# Altium footprint library PFC_Interleaved_V8.1.PcbLib: 67 footprints (part 1 of 5)
Each footprint in its own frame and in the unit in brackets; x right, y up, seen from the top. Pads: shape width x height; smd on the part's side, far side on the other; paste and mask are expansions set on the pad; w line width, h text height; cw(c..) or ccw(c..) is an arc to the next point about the centre after c.
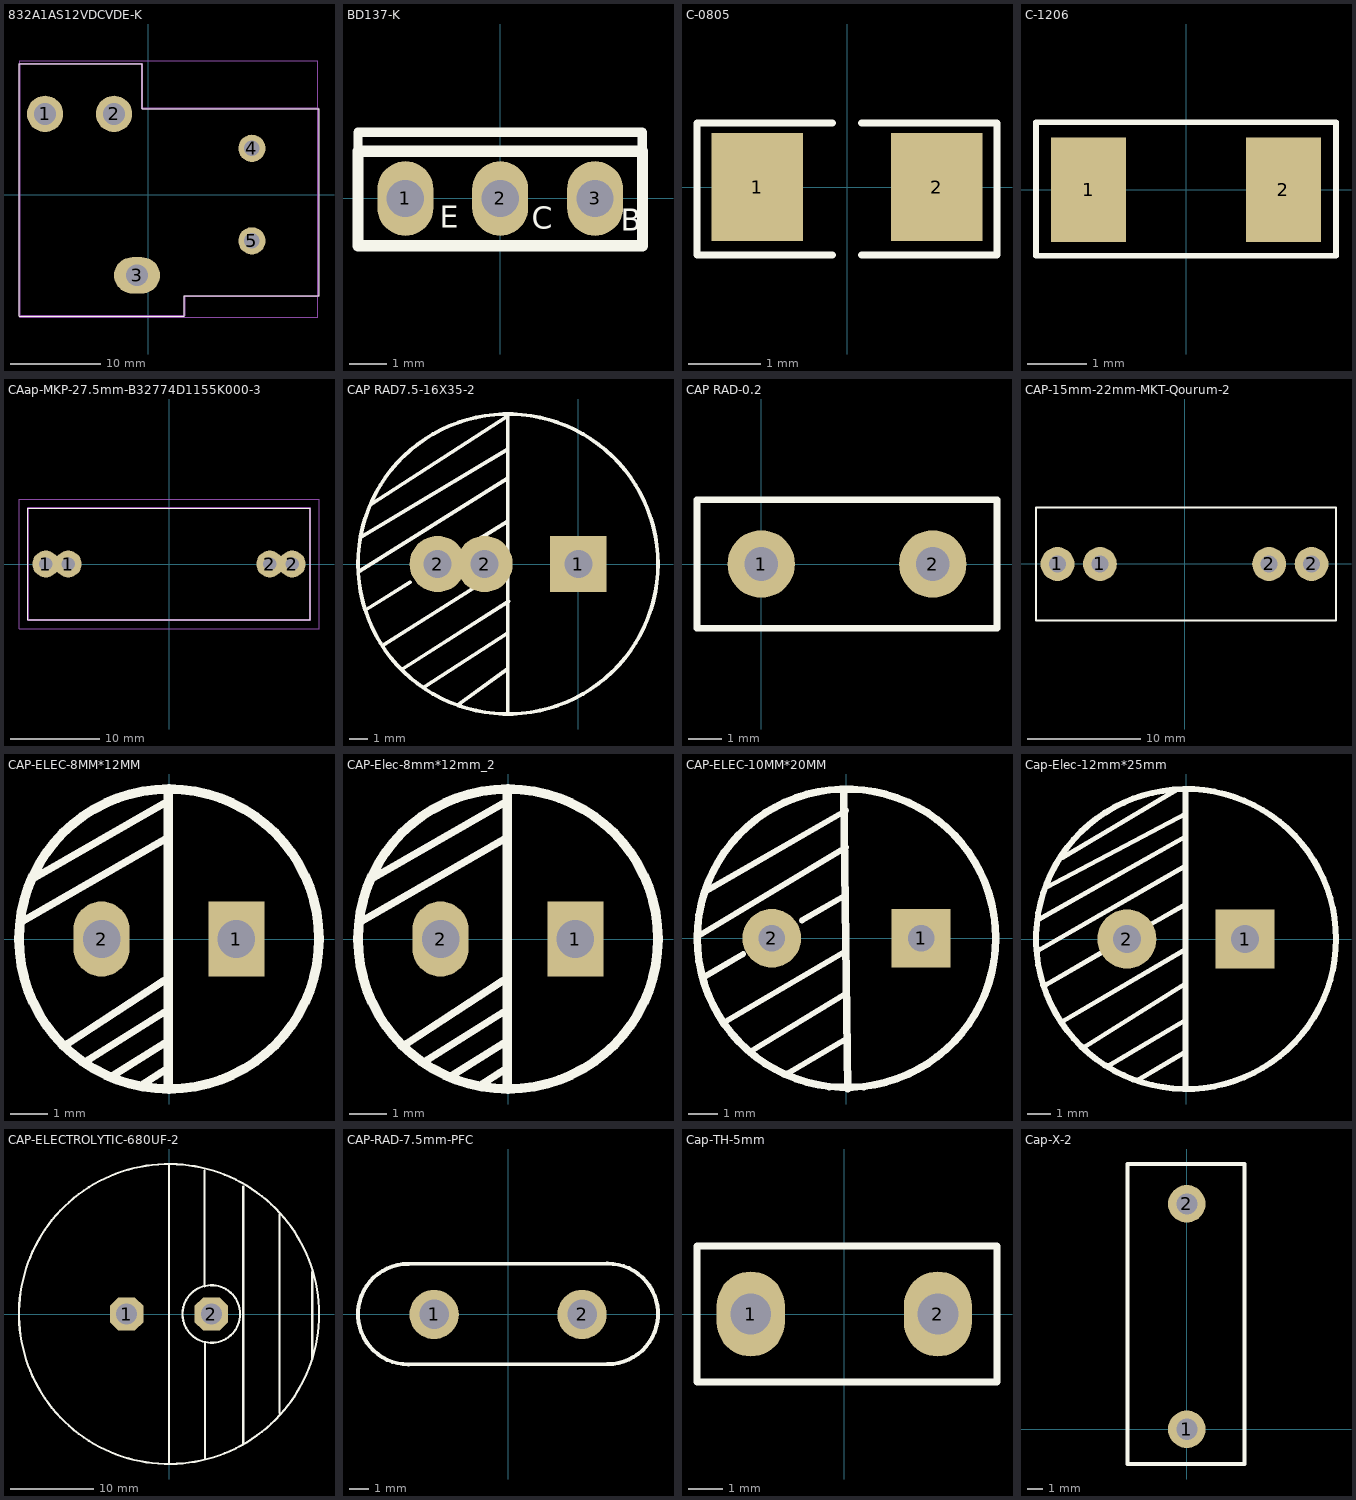
[diagram p0: the footprints below, top view; thin cyan lines are the x and y axes]

## 832A1AS12VDCVDE-K [mm]
pads (5):
  round 4 hole 2.4: 1(-11.4,8.9) 2(-3.8,8.9)
  oval 5.08x4 hole 2.4: 3(-1.26,-8.9)
  round 3 hole 1.7: 4(11.4,5.1) 5(11.4,-5.1)
Top Overlay:
  lines w0.1: -14.275,-13.411 -14.275,14.427 -0.686,14.427 -0.686,9.474 18.796,9.474 18.796,-11.176 3.962,-11.176 3.962,-13.411 -14.275,-13.411
Mechanical 13:
  lines w0.2: -14.224,-13.36 -14.224,14.427 -0.711,14.427 -0.711,9.5 18.72,9.5 18.72,-11.201 3.962,-11.201 3.962,-13.36 -14.224,-13.36
Mechanical 15:
  lines w0.1: -14.173,-13.513 -14.173,14.75 18.669,14.75 18.669,-13.513 -14.173,-13.513
3D body "2103595_t9as1d12-24.stp": height 1.71, standoff -22.04, extent -13.945,-13.208 18.567,14.224

## BD137-K [mm]
pads (3):
  oval 1.5x2 hole 1: 1(-2.54,0) 2(0,0) 3(2.54,0)
Top Overlay:
  lines w0.254: -3.81,1.27 -3.81,1.778 3.81,1.778 3.81,1.27 3.69,1.27
  lines w0.305: -3.81,-1.27 -3.81,1.27 3.81,1.27 3.81,-1.27 -3.81,-1.27
  text "B" at 3.226,-1.067 h1
  text "C" at 0.838,-1.016 h1
  text "E" at -1.626,-0.991 h1
3D body "User Library-TO-126V.STEP": height 15.75, standoff -7.75, extent -4.002,-1.098 3.798,1.702

## C-0805 [mm]
pads (2):
  rect 1.27x1.5 smd: 1(-1.245,0) 2(1.245,0)
Top Overlay:
  lines w0.1: -0.203,-0.94 -2.082,-0.94 -2.082,0.889 -0.203,0.889 ; 0.203,-0.94 2.082,-0.94 2.082,0.889 0.203,0.889
3D body "cap 0805.STEP": height 0.65, standoff 0, extent -1.016,-0.635 1.016,0.635

## C-1206 [mil]
pads (2):
  rect 50x70 smd: 1(-65,0) 2(65,0)
Top Overlay:
  lines w3.94: -100,-44 100,-44 100,45 -100,45 -100,-44
3D body "1206_Capacitor.step": height 39.45, standoff 0, extent -63.09,-31.49 62.89,31.5

## CAap-MKP-27.5mm-B32774D1155K000-3 [mm]
pads (4):
  round 3 hole 1.5: 1(-13.75,0) 1(-11.25,0) 2(11.25,0) 2(13.75,0)
Top Overlay:
  lines w0.1: -15.75,-6.25 -15.75,6.25 15.75,6.25 15.75,-6.25 -15.75,-6.25
Mechanical 13:
  lines w0.2: -15.75,-6.25 -15.75,6.25 15.75,6.25 15.75,-6.25 -15.75,-6.25
Mechanical 15:
  lines w0.1: -16.75,-7.25 -16.75,7.25 16.75,7.25 16.75,-7.25 -16.75,-7.25
3D body "r463r410050m1k.stp": height 19.8, standoff -5.3, extent -16.188,-5.562 16.112,5.639

## CAP RAD7.5-16X35-2 [mm]
pads (3):
  rect 3x3 hole 1.5: 1(0,0)
  round 3 hole 1.5: 2(-7.5,0) 2(-4.997,0)
Top Overlay:
  circle w0.2: c-3.75,0 r8
  lines w0.2: -11.684,-0.381 -3.759,4.572 ; -11.557,1.448 -3.759,6.121 ; -11.348,-2.457 -8.976,-0.975 ; -11.074,3.175 -3.759,7.899 -3.759,-7.976 ; -10.417,-4.339 -3.759,-0.127 ; -9.38,-5.601 -3.708,-1.981 ; -8.223,-6.563 -3.759,-3.683 ; -6.426,-7.518 -3.759,-5.588 ; -6.079,0.836 -3.759,2.286
3D body "User Library-CE_R300_D650_H1000.step": height 25.4, standoff -3.5, extent -11.964,-8.255 4.521,8.223

## CAP RAD-0.2 [mm]
pads (2):
  round 2 hole 1: 1(0,0) 2(5.08,0)
Top Overlay:
  lines w0.2: -1.905,-1.905 -1.905,1.905 6.985,1.905 6.985,-1.905 -1.905,-1.905
3D body: height 3, standoff 0, extent 4.83,-0.25 5.33,0.25
3D body: height 3, standoff 0, extent -0.25,-0.25 0.25,0.25
3D body: height 7, standoff 1, extent -0.536,-0.5 5.461,0.5

## CAP-15mm-22mm-MKT-Qourum-2 [mm]
pads (4):
  round 3 hole 1.5 mask+0: 1(-11.26,0) 1(-7.5,0) 2(7.5,0) 2(11.26,0)
Top Overlay:
  lines w0.152: 5.631,-5 13.429,-5 13.429,5 5.631,5 ; 6.298,-5 -13.165,-5 -13.165,5 6.298,5
3D body "User Library-Film Capacitor 26,5x10x18,5mm.step": height 18.51, standoff -2.49, extent -13.19,-5.076 13.31,4.924

## CAP-ELEC-8MM*12MM [mm]
pads (2):
  rect 1.5x2 hole 1: 1(1.8,0)
  oval 1.5x2 hole 1: 2(-1.8,0)
Top Overlay:
  circle w0.254: c0,0 r4
  lines w0.2: -3.906,0.478 -0.015,2.718 ; -3.684,1.583 -0.142,3.607 ; -2.707,-2.794 -0.142,-1.118 ; -2.221,-3.267 -0.015,-1.88 ; -1.564,-3.683 -0.012,-2.71 ; -0.802,-3.937 -0.015,-3.429
  lines w0.254: -0.015,-3.937 -0.015,3.912
Mechanical 1:
  circle w0.02: c0,0 r4
3D body: height 11, standoff 0, extent -4.051,-0.889 -3.772,1.042
3D body: height 12.1, standoff 11.6, extent -2.999,-2.997 2.999,3
3D body: height 12, standoff 0, extent -3.998,-3.994 3.998,4

## CAP-Elec-8mm*12mm_2 [mm]
pads (2):
  rect 1.5x2 hole 1: 1(1.8,0)
  oval 1.5x2 hole 1: 2(-1.8,0)
Top Overlay:
  circle w0.254: c0,0 r4
  lines w0.2: -3.906,0.478 -0.015,2.718 ; -3.684,1.583 -0.142,3.607 ; -2.707,-2.794 -0.142,-1.118 ; -2.221,-3.267 -0.015,-1.88 ; -1.564,-3.683 -0.012,-2.71 ; -0.802,-3.937 -0.015,-3.429
  lines w0.254: -0.015,-3.937 -0.015,3.912
Mechanical 1:
  circle w0.02: c0,0 r4
3D body: height 11, standoff 0, extent -4.051,-0.889 -3.772,1.042
3D body: height 12.1, standoff 11.6, extent -2.999,-2.997 2.999,3
3D body: height 12, standoff 0, extent -3.998,-3.994 3.998,4

## CAP-ELEC-10MM*20MM [mm]
pads (2):
  rect 2x2 hole 0.9: 1(2.54,0)
  round 2 hole 0.9: 2(-2.54,0)
Top Overlay:
  circle w0.254: c0,0 r5.08
  lines w0.2: -5.044,0.076 -0.015,3.099 ; -4.807,-1.292 -3.512,-0.54 ; -4.79,1.6 -0.015,4.343 ; -4.205,-2.886 -0.015,-0.432 ; -3.266,-3.861 -0.015,-1.88 ; -2.004,-4.609 -0.015,-3.429 ; -1.514,0.61 -0.015,1.473
  lines w0.254: -0.091,4.902 0.036,-5.131
Mechanical 1:
  circle w0.02: c0.036,-0.051 r5.08
3D body "User Library-CAP_Electrolytic_10X20.step": height 20.1, standoff -4.72, extent -5.038,-4.963 4.949,5.014

## Cap-Elec-12mm*25mm [mm]
pads (2):
  rect 2.5x2.5 hole 1.2: 1(2.5,0)
  round 2.5 hole 1.2: 2(-2.5,0)
Top Overlay:
  circle w0.254: c0,0 r6.35
  lines w0.2: -6.251,-0.491 -0.015,3.099 ; -6.249,0.813 -0.015,4.343 ; -5.919,2.184 0.011,5.309 ; -5.907,-1.93 -3.512,-0.54 ; -5.239,3.441 -1.361,5.74 ; -5.194,-3.466 -0.015,-0.432 ; -4.268,-4.554 -0.015,-1.88 ; -3.796,4.297 -0.391,6.316 ; -3.263,-5.355 -0.015,-3.429 ; -2.034,-5.973 -0.015,-4.775 ; -1.514,0.61 -0.015,1.473
  lines w0.254: -0.015,-6.35 -0.015,6.299
Mechanical 1:
  circle w0.02: c0,0 r6.35
3D body "User Library-CAPAER_D125_L250_P050_W006X030.STEP": height 25.02, standoff -3, extent -6.336,-6.25 6.174,6.25

## CAP-ELECTROLYTIC-680UF-2 [mm]
pads (2):
  oct 4x4 hole 2.5: 1(-5.08,0) 2(5.08,0)
Top Overlay:
  circle w0.254: c0,0 r18
  circle w0.254: c5.08,0 r3.458
  lines w0.254: 0,-18 0,18 ; 4.242,3.302 4.242,17.196 ; 4.318,-17.399 4.318,-3.404 ; 8.915,-15.646 8.915,15.316 ; 13.259,-11.862 13.259,11.913 ; 17.196,-5.385 17.196,5.029
3D body: height 50.1, standoff 0, extent -14.481,-15.076 15.519,14.873
3D body: height 48, standoff 0, extent -1.688,-10.428 18.288,9.56
3D body: height 50, standoff 0, extent -17.864,-18.251 18.11,17.736

## CAP-RAD-7.5mm-PFC [mm]
pads (2):
  round 2.5 hole 1.5: 1(-3.75,0) 2(3.75,0)
Top Overlay:
  lines w0.2: -5.085,2.57 5.024,2.579 ; -5.06,2.565 ccw(c-5.06,0.015) -5.06,-2.535 5.05,-2.526 ; 5.05,-2.521 ccw(c5.05,0.029) 5.05,2.579
3D body: height 6, standoff 0, extent 3.449,-0.307 4.047,0.292
3D body: height 6, standoff 0, extent -4.062,-0.284 -3.464,0.315
3D body: height 14, standoff 2, extent -5.945,-2.476 6.055,2.524

## Cap-TH-5mm [mm]
pads (2):
  oval 2x2.5 hole 1.2: 1(-2.75,0) 2(2.75,0)
Top Overlay:
  lines w0.2: -4.33,-2 4.489,-2 4.489,2 -4.33,2 -4.33,-2
3D body: height 2, standoff -2, extent 2.117,-0.317 2.75,0.317
3D body: height 9.5, standoff 0.5, extent -4.455,-1.778 4.543,1.822
3D body: height 2, standoff -2, extent -3.383,-0.317 -2.75,0.317

## Cap-X-2 [mm]
pads (2):
  round 2.5 hole 1.4: 1(0,0) 2(0,15)
Top Overlay:
  lines w0.254: -3.945,-2.314 3.841,-2.314 3.841,17.653 -3.945,17.653 -3.945,-2.314
3D body: height 16, standoff 1, extent -3.937,-2.286 3.81,17.653
3D body: height 2, standoff -2, extent -0.506,14.683 0.127,15.317
3D body: height 2, standoff -2, extent -0.506,-0.317 0.127,0.317